# Altium footprint library LED_DOME_SAMP.PcbLib: 1 footprints
Each footprint in its own frame and in the unit in brackets; x right, y up, seen from the top. Pads: shape width x height; smd on the part's side, far side on the other; paste and mask are expansions set on the pad; w line width, h text height; cw(c..) or ccw(c..) is an arc to the next point about the centre after c.
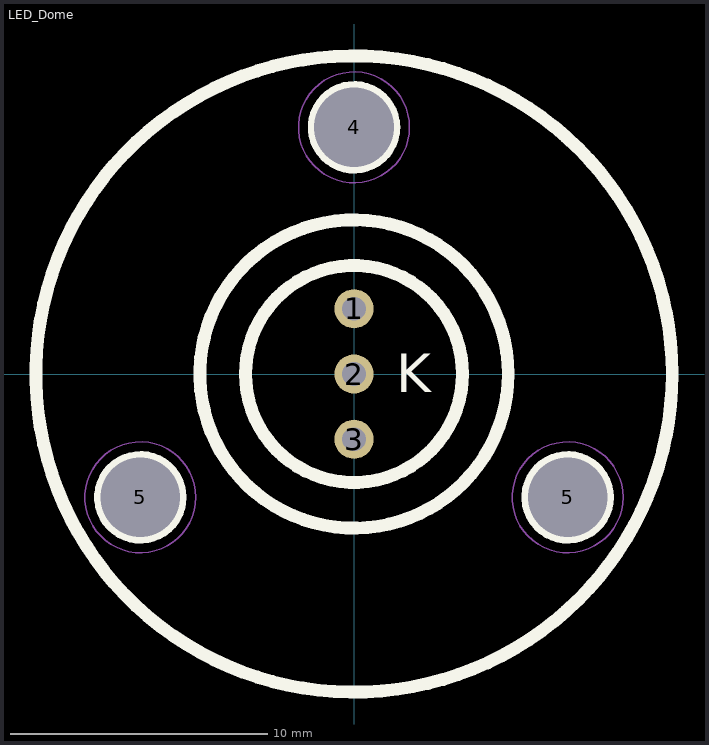
[diagram p0: the footprint, top view; thin cyan lines are the x and y axes]

## LED_Dome [mm]
height 0.8
pads (6):
  round 1.52 hole 0.92: 1(0,2.54) 2(0,0) 3(0,-2.54)
  round 1.016 hole 3.1 unplated: 4(0,9.6) 5(-8.314,-4.8) 5(8.314,-4.8)
Top Overlay:
  circle w0.5: c0,9.6 r1.55
  circle w0.5: c0,0 r4.222
  circle w0.5: c-8.314,-4.8 r1.55
  circle w0.5: c8.314,-4.8 r1.55
  circle w0.5: c0,0 r6.001
  circle w0.5: c0,0 r12.383
  text "K" at 1.651,-0.711 h1.5
Mechanical 13:
  circle w0.05: c8.314,-4.8 r2.159
  circle w0.05: c0,9.6 r2.159
  circle w0.05: c-8.314,-4.8 r2.159
3D body "LED_RED-GREEN_TH.step": height 11.51, standoff -17.99, extent -2.108,-2.915 1.888,2.865